# Altium schematic symbol library WE-CMS.SchLib: 3 symbols
Pins are listed as number, name and electrical type; pins without a type are passive.

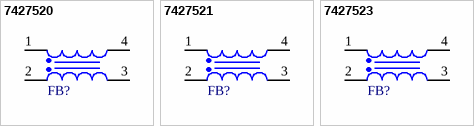
[diagram p0: symbols 7427520 to 7427523]

## 7427520
designator FB?, comment 30Ohm  (value not drawn)
WE-CMS SMT Bead Array, size 4856, 30Ohm, 17A; Manufacturer Part Number: 7427520; Manufacturer: Wurth Elektronik; Case/Size Code: 4856; DC Resistance: 3mOhm; Impedance @25MHz: 20Ohm; Rated Voltage: 80V; Category: Ferrites for PCB Assembly; Match Code: WE-CMS; ComponentLink1Description: Website Link; ComponentLink1URL: https://www.we-online.com/redexpert/article/7427520?ad; ComponentLink2Description: Datasheet Link; ComponentLink2URL: https://www.we-online.com/redexpert/spec/7427520?ad; Mount: Surface Mount; Operating Temperature Max: 125°C; Operating Temperature Min: -40°C; Packaging: Tape and Reel; Length: 4.5mm; Width: 5.6mm; Height: 3.2mm; Impedance @100MHz: 30Ohm; Rated Current: 17A
footprint WE-CMS_4856
pins: 1, 2, 3, 4

## 7427521
designator FB?, comment 52Ohm  (value not drawn)
WE-CMS SMT Bead Array, size 9056, 52Ohm, 19A; Manufacturer Part Number: 7427521; Manufacturer: Wurth Elektronik; Case/Size Code: 9056; DC Resistance: 3mOhm; Impedance @25MHz: 34Ohm; Rated Voltage: 80V; Category: Ferrites for PCB Assembly; Match Code: WE-CMS; ComponentLink1Description: Website Link; ComponentLink1URL: https://www.we-online.com/redexpert/article/7427521?ad; ComponentLink2Description: Datasheet Link; ComponentLink2URL: https://www.we-online.com/redexpert/spec/7427521?ad; Mount: Surface Mount; Operating Temperature Max: 125°C; Operating Temperature Min: -40°C; Packaging: Tape and Reel; Length: 8.5mm; Width: 5.6mm; Height: 3.2mm; Impedance @100MHz: 52Ohm; Rated Current: 19A
footprint WE-CMS_9056
pins: 1, 2, 3, 4

## 7427523
designator FB?, comment 83Ohm  (value not drawn)
WE-CMS SMT Bead Array, size 9085, 83Ohm, 21A; Manufacturer Part Number: 7427523; Manufacturer: Wurth Elektronik; Case/Size Code: 9085; DC Resistance: 3mOhm; Impedance @25MHz: 54Ohm; Rated Voltage: 80V; Category: Ferrites for PCB Assembly; Match Code: WE-CMS; ComponentLink1Description: Website Link; ComponentLink1URL: https://www.we-online.com/redexpert/article/7427523?ad; ComponentLink2Description: Datasheet Link; ComponentLink2URL: https://www.we-online.com/redexpert/spec/7427523?ad; Mount: Surface Mount; Operating Temperature Max: 125°C; Operating Temperature Min: -40°C; Packaging: Tape and Reel; Length: 9mm; Width: 8.5mm; Height: 4.63mm; Impedance @100MHz: 83Ohm; Rated Current: 21A
footprint WE-CMS_9085
pins: 1, 2, 3, 4